# Altium footprint library IC-ExploreMicro.PcbLib: 2 footprints
Each footprint in its own frame and in the unit in brackets; x right, y up, seen from the top. Pads: shape width x height; smd on the part's side, far side on the other; paste and mask are expansions set on the pad; w line width, h text height; cw(c..) or ccw(c..) is an arc to the next point about the centre after c.
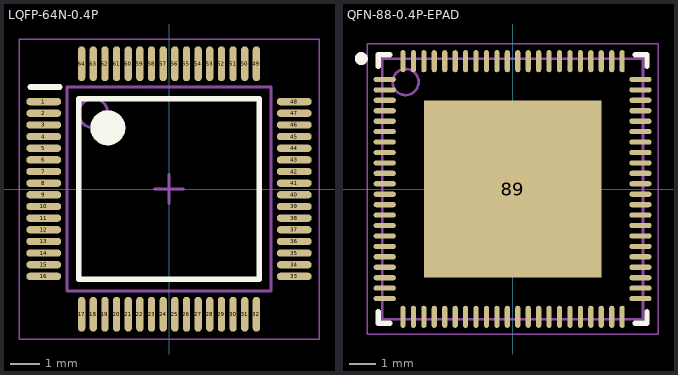
[diagram p0: the footprints below, top view; thin cyan lines are the x and y axes]

## LQFP-64N-0.4P [mm] "64-Leads, Body 7.00x7.00mm, Pitch 0.40mm"
height 1.6
pads (64):
  oval 1.2x0.25 smd: 1(-4.3,3) 2(-4.3,2.6) 3(-4.3,2.2) 4(-4.3,1.8) 5(-4.3,1.4) 6(-4.3,1) 7(-4.3,0.6) 8(-4.3,0.2) 9(-4.3,-0.2) 10(-4.3,-0.6) 11(-4.3,-1) 12(-4.3,-1.4) 13(-4.3,-1.8) 14(-4.3,-2.2) 15(-4.3,-2.6) 16(-4.3,-3) 33(4.3,-3) 34(4.3,-2.6) 35(4.3,-2.2) 36(4.3,-1.8) 37(4.3,-1.4) 38(4.3,-1) 39(4.3,-0.6) 40(4.3,-0.2) 41(4.3,0.2) 42(4.3,0.6) 43(4.3,1) 44(4.3,1.4) 45(4.3,1.8) 46(4.3,2.2) 47(4.3,2.6) 48(4.3,3)
  oval 0.25x1.2 smd: 17(-3,-4.3) 18(-2.6,-4.3) 19(-2.2,-4.3) 20(-1.8,-4.3) 21(-1.4,-4.3) 22(-1,-4.3) 23(-0.6,-4.3) 24(-0.2,-4.3) 25(0.2,-4.3) 26(0.6,-4.3) 27(1,-4.3) 28(1.4,-4.3) 29(1.8,-4.3) 30(2.2,-4.3) 31(2.6,-4.3) 32(3,-4.3) 49(3,4.3) 50(2.6,4.3) 51(2.2,4.3) 52(1.8,4.3) 53(1.4,4.3) 54(1,4.3) 55(0.6,4.3) 56(0.2,4.3) 57(-0.2,4.3) 58(-0.6,4.3) 59(-1,4.3) 60(-1.4,4.3) 61(-1.8,4.3) 62(-2.2,4.3) 63(-2.6,4.3) 64(-3,4.3)
Top Overlay:
  circle w0.6: c-2.1,2.1 r0.3
  lines w0.2: -4.75,3.5 -3.75,3.5 ; -3.1,-3.1 -3.1,3.1 3.1,3.1 3.1,-3.1 -3.1,-3.1
Top Value:
  text "'.Comment'" at -5.95,-0.481 h2.54
Top Designator:
  text "'.Designator'" at -7.15,-0.256 h2.54
Top Courtyard:
  lines w0.05: -5.15,-5.15 -5.15,5.15 5.15,5.15 5.15,-5.15 -5.15,-5.15
  lines w0.1: -0.5,0 0.5,0 ; 0,-0.5 0,0.5
Top Assembly (Mech20):
  circle w0.1: c-2.6,2.6 r0.5
  lines w0.1: -3.5,-3.5 -3.5,3.5 3.5,3.5 3.5,-3.5 -3.5,-3.5
3D body "LQFP64 7x7.STEP": height 1.45, standoff 0, extent -4.51,-4.503 4.496,4.503

## QFN-88-0.4P-EPAD [mm] "QFN, 88-Leads, Body 10.00x10.00mm, Pitch 0.40mm, Thermal Pad 6.80x6.80mm, IPC Medium Density"
height 0.8
pads (89):
  oval 0.85x0.2 smd: 1(-4.9,4.2) 2(-4.9,3.8) 3(-4.9,3.4) 4(-4.9,3) 5(-4.9,2.6) 6(-4.9,2.2) 7(-4.9,1.8) 8(-4.9,1.4) 9(-4.9,1) 10(-4.9,0.6) 11(-4.9,0.2) 12(-4.9,-0.2) 13(-4.9,-0.6) 14(-4.9,-1) 15(-4.9,-1.4) 16(-4.9,-1.8) 17(-4.9,-2.2) 18(-4.9,-2.6) 19(-4.9,-3) 20(-4.9,-3.4) 21(-4.9,-3.8) 22(-4.9,-4.2) 45(4.9,-4.2) 46(4.9,-3.8) 47(4.9,-3.4) 48(4.9,-3) 49(4.9,-2.6) 50(4.9,-2.2) 51(4.9,-1.8) 52(4.9,-1.4) 53(4.9,-1) 54(4.9,-0.6) 55(4.9,-0.2) 56(4.9,0.2) 57(4.9,0.6) 58(4.9,1) 59(4.9,1.4) 60(4.9,1.8) 61(4.9,2.2) 62(4.9,2.6) 63(4.9,3) 64(4.9,3.4) 65(4.9,3.8) 66(4.9,4.2)
  oval 0.2x0.85 smd: 23(-4.2,-4.9) 24(-3.8,-4.9) 25(-3.4,-4.9) 26(-3,-4.9) 27(-2.6,-4.9) 28(-2.2,-4.9) 29(-1.8,-4.9) 30(-1.4,-4.9) 31(-1,-4.9) 32(-0.6,-4.9) 33(-0.2,-4.9) 34(0.2,-4.9) 35(0.6,-4.9) 36(1,-4.9) 37(1.4,-4.9) 38(1.8,-4.9) 39(2.2,-4.9) 40(2.6,-4.9) 41(3,-4.9) 42(3.4,-4.9) 43(3.8,-4.9) 44(4.2,-4.9) 67(4.2,4.9) 68(3.8,4.9) 69(3.4,4.9) 70(3,4.9) 71(2.6,4.9) 72(2.2,4.9) 73(1.8,4.9) 74(1.4,4.9) 75(1,4.9) 76(0.6,4.9) 77(0.2,4.9) 78(-0.2,4.9) 79(-0.6,4.9) 80(-1,4.9) 81(-1.4,4.9) 82(-1.8,4.9) 83(-2.2,4.9) 84(-2.6,4.9) 85(-3,4.9) 86(-3.4,4.9) 87(-3.8,4.9) 88(-4.2,4.9)
  rect 6.8x6.8 smd: 89(0,0)
Top Overlay:
  circle w0.25: c-5.8,5 r0.125
  lines w0.2: -5.15,-4.7 -5.15,-5.15 -4.7,-5.15 ; -5.15,4.7 -5.15,5.15 -4.7,5.15 ; 4.7,-5.15 5.15,-5.15 5.15,-4.7 ; 4.7,5.15 5.15,5.15 5.15,4.7
Top Value:
  text "'.Comment'" at -5.925,-0.481 h2.54
Top Designator:
  text "'.Designator'" at -7.125,-0.256 h2.54
Top Courtyard:
  lines w0.05: -5.575,-5.575 5.575,-5.575 5.575,5.575 -5.575,5.575 -5.575,-5.575
  lines w0.1: -0.5,0 0.5,0 ; 0,-0.5 0,0.5
Top Assembly (Mech20):
  circle w0.1: c-4.1,4.1 r0.5
  lines w0.1: -5,-5 5,-5 5,5 -5,5 -5,-5
3D body "QFN40P1000X1000X80_HS-89N.step": height 0.8, standoff 0, extent -5.02,-5.02 5.02,5.02